# Altium footprint library URB_LD-20WR3.PcbLib: 1 footprints
Each footprint in its own frame and in the unit in brackets; x right, y up, seen from the top. Pads: shape width x height; smd on the part's side, far side on the other; paste and mask are expansions set on the pad; w line width, h text height; cw(c..) or ccw(c..) is an arc to the next point about the centre after c.
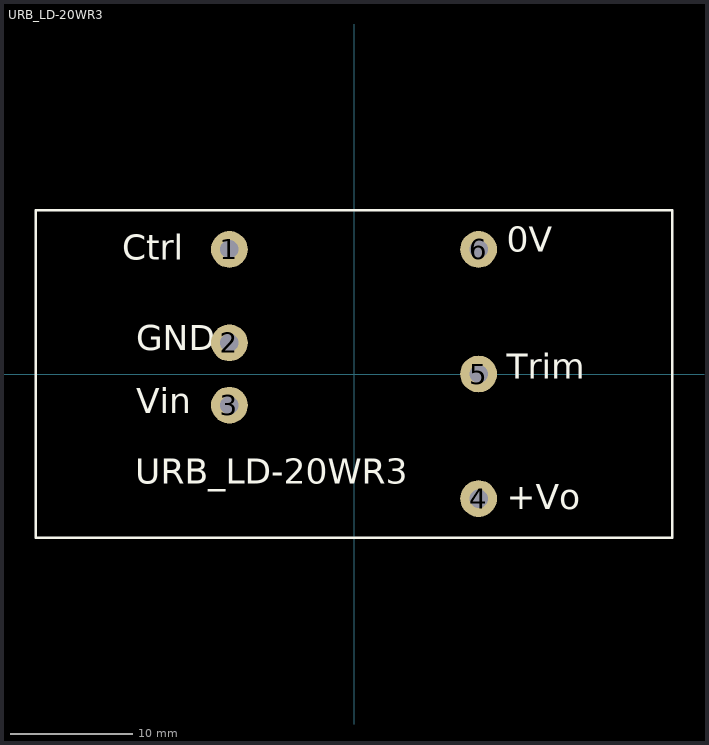
[diagram p0: the footprint, top view; thin cyan lines are the x and y axes]

## URB_LD-20WR3 [mm]
pads (6):
  round 3 hole 1.5: 1(-10.16,10.16) 2(-10.16,2.54) 3(-10.16,-2.54) 4(10.16,-10.16) 5(10.16,0) 6(10.16,10.16)
Top Overlay:
  lines w0.2: -25.95,-13.35 -25.95,13.35 25.95,13.35 25.95,-13.35 -25.95,-13.35
  text "Ctrl" at -18.89,8.61 h3.5
  text "0V" at 12.463,9.265 h3.5
  text "Trim" at 12.469,-1.094 h3.5
  text "+Vo" at 12.469,-11.732 h3.5
  text "Vin" at -17.772,-3.904 h3.5
  text "GND" at -17.743,1.241 h3.5
  text "URB_LD-20WR3" at -17.85,-9.646 h3.5